# Altium footprint library XRCGB24M000F0L00R0-Footprint-1.PcbLib: 1 footprints
Each footprint in its own frame and in the unit in brackets; x right, y up, seen from the top. Pads: shape width x height; smd on the part's side, far side on the other; paste and mask are expansions set on the pad; w line width, h text height; cw(c..) or ccw(c..) is an arc to the next point about the centre after c.
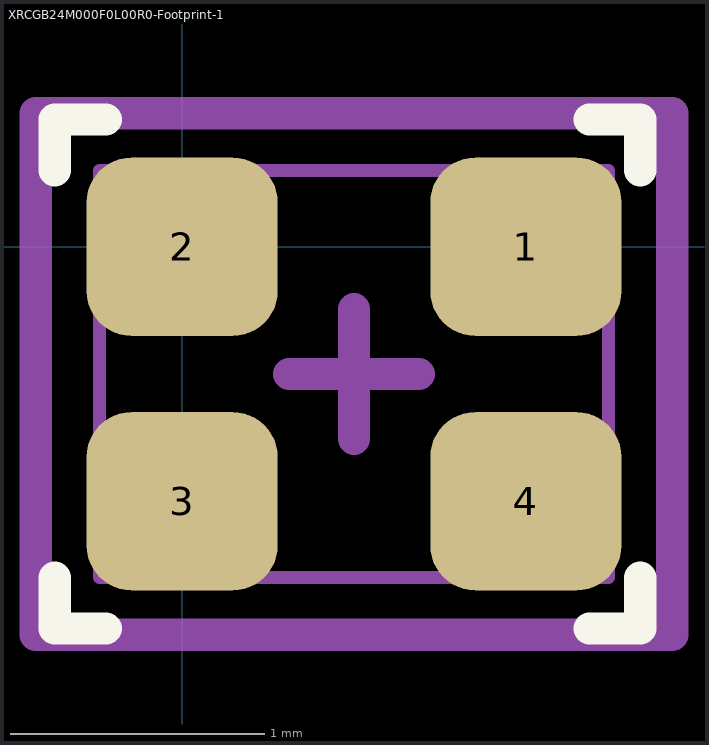
[diagram p0: the footprint, top view; thin cyan lines are the x and y axes]

## XRCGB24M000F0L00R0-Footprint-1 [mm] "Ceramic Resonator SMD 2.00x1.6mm"
pads (4):
  rrect50% 0.75x0.7 smd: 1(1.35,0) 2(0,0) 3(0,-1) 4(1.35,-1)
Top Overlay:
  lines w0.127: -0.5,-1.3 -0.5,-1.5 -0.3,-1.5 ; -0.5,0.3 -0.5,0.5 -0.3,0.5 ; 1.6,-1.5 1.8,-1.5 1.8,-1.3 ; 1.6,0.5 1.8,0.5 1.8,0.3
Top Assembly:
  lines w0.051: -0.325,-1.3 1.675,-1.3 1.675,0.3 -0.325,0.3 -0.325,-1.3
Top Courtyard:
  lines w0.127: 0.421,-0.5 0.929,-0.5 ; 0.675,-0.754 0.675,-0.246 ; -0.575,-1.525 1.925,-1.525 1.925,0.525 -0.575,0.525 -0.575,-1.525
3D body "User Library-XRCGB27M000F2P00R0.step": height 0.65, standoff 0, extent -0.325,-1.3 1.675,0.3